# Altium schematic symbol library GENERIC_P_MOSFET_SGD.Schlib: 1 symbol
Pins are listed as number, name and electrical type; pins without a type are passive.

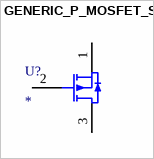
[diagram p0: symbol GENERIC_P_MOSFET_SGD]

## GENERIC_P_MOSFET_SGD
designator U?
pins: 1 S, 2 G, 3 D